# EAGLE library part HEADER_POS10_? (library IIT_BOMBAY_Racing)
Molex - Micro-Fit 3.0 Series connector, 3.00mm (0.118") pitch header, 10 positions.
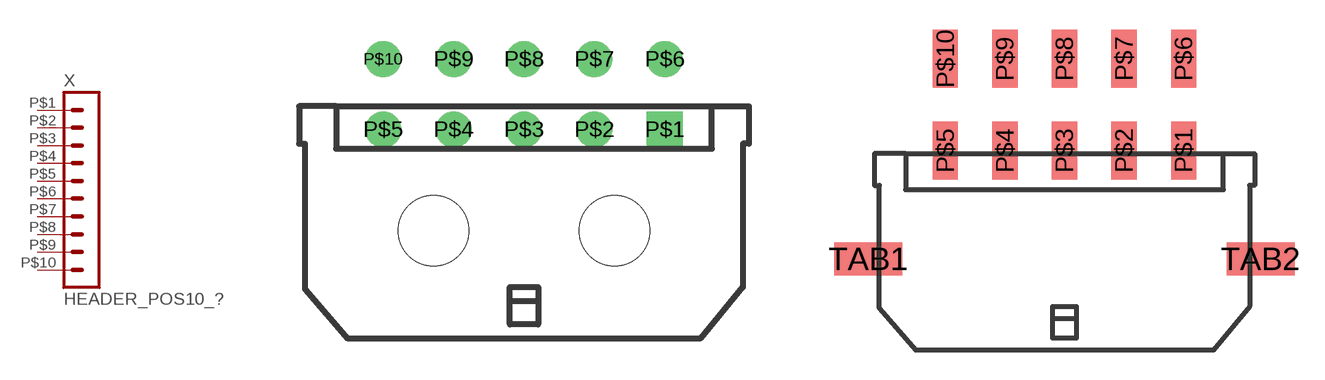
[diagram p57: symbol with the pads of 43045-1000; footprints 43045-1000, 43045-1009]

Designator prefix X

## HEADER_POS10_43045-1000  [43045-1000]
P$1  1  pas
P$2  2  pas
P$3  3  pas
P$4  4  pas
P$5  5  pas
P$6  6  pas
P$7  7  pas
P$8  8  pas
P$9  9  pas
P$10  10  pas

## HEADER_POS10_43045-1009  [43045-1009]
Pads as for 43045-1000

## HEADER_POS10_43045-1006  [43045-1006]
Pads as for 43045-1000

## HEADER_POS10_43045-1012  [43045-1012]
Pads as for 43045-1000

## HEADER_POS10_43045-1015  [43045-1015]
Pads as for 43045-1000

## HEADER_POS10_43045-1018  [43045-1018]
Pads as for 43045-1000

## HEADER_POS10_44914-1001  [44914-1001]
Pads as for 43045-1000

## HEADER_POS10_43650-1015  [43650-1015]
Pads as for 43045-1000

## HEADER_POS10_43650-1021  [43650-1021]
Pads as for 43045-1000

## HEADER_POS10_43650-1024  [43650-1024]
Pads as for 43045-1000

## HEADER_POS10_43650-1000  [43650-1000]
Pads as for 43045-1000

## HEADER_POS10_43650-1009  [43650-1009]
P$1  2  pas
P$2  1  pas
P$3  3  pas
P$4  4  pas
P$5  5  pas
P$6  6  pas
P$7  7  pas
P$8  8  pas
P$9  9  pas
P$10  10  pas

## HEADER_POS10_43650-1012  [43650-1012]
Pads as for 43045-1000

## HEADER_POS10_44769-1001  [44769-1001]
Pads as for 43045-1000

## HEADER_POS10_44432-1001  [44432-1001]
Pads as for 43045-1000

## HEADER_POS10_44428-1001  [44428-1001]
Pads as for 43045-1000

## HEADER_POS10_44764-1001  [44764-1001]
Pads as for 43045-1000

## Footprint 43045-1000 (pad centres in mm)
Molex Micro-Fit 3.0 - Header Shrouded, Thru hole, Right Angle; P/N: SD-43045-1000, SD-43045-1001, SD-43045-1002 http://www.molex.com/pdm_docs/sd/430450200_sd.pdf
drill 1.02 square: P$1 6,4.32
drill 1.02: P$2 3,4.32; P$3 0,4.32; P$4 -3,4.32; P$5 -6,4.32; P$6 6,7.32; P$7 3,7.32; P$8 0,7.32; P$9 -3,7.32; P$10 -6,7.32
hole 3 at 3.85,0
hole 3 at -3.85,0

## Footprint 43045-1009 (pad centres in mm)
Molex Micro-Fit 3.0 - Header Shrouded, Surface mount, Right Angle, Solderable tabs; P/N: SD-43045-1009, SD-43045-1010, SD-43045-1011 http://www.molex.com/pdm_docs/sd/430450209_sd.pdf
smd 1.27 x 2.92: P$1 6,5.47; P$2 3,5.47; P$3 0,5.47; P$4 -3,5.47; P$5 -6,5.47; P$6 6,10.1; P$7 3,10.1; P$8 0,10.1; P$9 -3,10.1; P$10 -6,10.1
smd 3.43 x 1.65: TAB1 -9.88,0; TAB2 9.88,0

## Footprint 43045-1006 (pad centres in mm)
Molex Micro-Fit 3.0 - Header Shrouded, Surface mount, Right Angle, Solderable Retention clips; P/N: SD-43045-1006, SD-43045-1007, SD-43045-1008 http://www.molex.com/pdm_docs/sd/430450206_sd.pdf
smd 1.27 x 2.92: P$1 6,5.47; P$2 3,5.47; P$3 0,5.47; P$4 -3,5.47; P$5 -6,5.47; P$6 6,10.1; P$7 3,10.1; P$8 0,10.1; P$9 -3,10.1; P$10 -6,10.1
hole 2.41 at -8.15,0
hole 2.41 at 8.15,0

## Footprint 43045-1012 (pad centres in mm)
Molex Micro-Fit 3.0 - Header Shrouded, Thru hole, Vertical, with Pegs; P/N: SD-43045-1012, SD-43045-1013, SD-43045-1014 http://www.molex.com/pdm_docs/sd/430450212_sd.pdf
drill 1.02 square: P$1 6,0
drill 1.02: P$2 3,0; P$3 0,0; P$4 -3,0; P$5 -6,0; P$6 6,3; P$7 3,3; P$8 0,3; P$9 -3,3; P$10 -6,3
hole 1.02 at 9,3.94
hole 1.02 at -9,3.94

## Footprint 43045-1015 (pad centres in mm)
Molex Micro-Fit 3.0 - Header Shrouded, Surface mount, Vertical, with Solderable Retention Clips; P/N: SD-43045-1015, SD-43045-1016, SD-43045-1017 http://www.molex.com/pdm_docs/sd/430450215_sd.pdf
smd 1.27 x 2.54: P$1 6,-4.7; P$2 3,-4.7; P$3 0,-4.7; P$4 -3,-4.7; P$5 -6,-4.7; P$6 6,4.7; P$7 3,4.7; P$8 0,4.7; P$9 -3,4.7; P$10 -6,4.7
hole 2.41 at -8.15,0
hole 2.41 at 8.15,0

## Footprint 43045-1018 (pad centres in mm)
Molex Micro-Fit 3.0 - Header Shrouded, Surface mount, Vertical, with Solder Tabs; P/N: SD-43045-1018, SD-43045-1019, SD-43045-1020 http://www.molex.com/pdm_docs/sd/430450218_sd.pdf
smd 3.43 x 1.65: CLIP1 -9.88,0; CLIP2 9.88,0
smd 1.27 x 2.54: P$1 6,-4.7; P$2 3,-4.7; P$3 0,-4.7; P$4 -3,-4.7; P$5 -6,-4.7; P$6 6,4.7; P$7 3,4.7; P$8 0,4.7; P$9 -3,4.7; P$10 -6,4.7

## Footprint 44914-1001 (pad centres in mm)
Molex Micro-Fit 3.0 - Header Shrouded, Thru hole, Vertical, Press-fit, with Pegs; P/N: SD-44914-1001, SD-44914-1002, SD-44914-1003 http://www.molex.com/pdm_docs/sd/449140201_sd.pdf
drill 1.09 square: P$1 6,0
drill 1.09: P$2 3,0; P$3 0,0; P$4 -3,0; P$5 -6,0; P$6 6,3; P$7 3,3; P$8 0,3; P$9 -3,3; P$10 -6,3
hole 1.02 at 9,3.94
hole 1.02 at -9,3.94

## Footprint 43650-1015 (pad centres in mm)
Molex Micro-Fit 3.0 - Header Shrouded, Thru hole, Vertical, with Pegs; P/N: SD-43650-1015, SD-43650-1016, SD-43650-1017 http://www.molex.com/pdm_docs/sd/436500215_sd.pdf
drill 1.02 square: P$1 13.5,0
drill 1.02: P$2 10.5,0; P$3 7.5,0; P$4 4.5,0; P$5 1.5,0; P$6 -1.5,0; P$7 -4.5,0; P$8 -7.5,0; P$9 -10.5,0; P$10 -13.5,0
hole 1.27 at 16.5,-1.96
hole 1.27 at -16.5,-1.96

## Footprint 43650-1021 (pad centres in mm)
Molex Micro-Fit 3.0 - Header Shrouded, Thru hole, Vertical, with Solderable Retention Clips; P/N: SD-43650-1021, SD-43650-1022, SD-43650-1023 http://www.molex.com/pdm_docs/sd/436500221_sd.pdf
smd 1.27 x 2.54: P$1 13.5,3.43; P$2 10.5,3.43; P$3 7.5,3.43; P$4 4.5,3.43; P$5 1.5,3.43; P$6 -1.5,3.43; P$7 -4.5,3.43; P$8 -7.5,3.43; P$9 -10.5,3.43; P$10 -13.5,3.43
hole 2.41 at 15.65,0
hole 2.41 at -15.65,0

## Footprint 43650-1024 (pad centres in mm)
Molex Micro-Fit 3.0 - Header Shrouded, Thru hole, Vertical, with Solder Tabs; P/N: SD-43650-1024, SD-43650-1025, SD-43650-1026 http://www.molex.com/pdm_docs/sd/436500224_sd.pdf
smd 1.27 x 2.54: P$1 13.5,3.43; P$2 10.5,3.43; P$3 7.5,3.43; P$4 4.5,3.43; P$5 1.5,3.43; P$6 -1.5,3.43; P$7 -4.5,3.43; P$8 -7.5,3.43; P$9 -10.5,3.43; P$10 -13.5,3.43
smd 3.43 x 1.65: TAB1 17.39,0; TAB2 -17.39,0

## Footprint 43650-1000 (pad centres in mm)
Molex Micro-Fit 3.0 - Header Shrouded, Thru hole, Right Angle, with Pegs; P/N: SD-43650-1000, SD-43650-1001, SD-43650-1002 http://www.molex.com/pdm_docs/sd/436500200_sd.pdf
drill 1.02 square: P$1 13.5,4.32
drill 1.02: P$2 10.5,4.32; P$3 7.5,4.32; P$4 4.5,4.32; P$5 1.5,4.32; P$6 -1.5,4.32; P$7 -4.5,4.32; P$8 -7.5,4.32; P$9 -10.5,4.32; P$10 -13.5,4.32
hole 3 at 11.35,0
hole 3 at -11.35,0

## Footprint 43650-1009 (pad centres in mm)
Molex Micro-Fit 3.0 - Header Shrouded, Thru hole, Right Angle, with Solderable Retention Clips; P/N: SD-43650-1009, SD-43650-1010, SD-43650-1011 http://www.molex.com/pdm_docs/sd/436500209_sd.pdf
smd 1.27 x 2.92: P$1 13.5,5.48; P$2 10.5,5.48; P$3 7.5,5.48; P$4 4.5,5.48; P$5 1.5,5.48; P$6 -1.5,5.48; P$7 -4.5,5.48; P$8 -7.5,5.48; P$9 -10.5,5.48; P$10 -13.5,5.48
hole 2.41 at 15.65,0
hole 2.41 at -15.65,0

## Footprint 43650-1012 (pad centres in mm)
Molex Micro-Fit 3.0 - Header Shrouded, Surface mount, Right Angle, with Solderable tabs; P/N: SD-43650-1012, SD-43650-1013, SD-43650-1014 http://www.molex.com/pdm_docs/sd/436500212_sd.pdf
smd 1.27 x 2.92: P$1 13.5,5.48; P$2 10.5,5.48; P$3 7.5,5.48; P$4 4.5,5.48; P$5 1.5,5.48; P$6 -1.5,5.48; P$7 -4.5,5.48; P$8 -7.5,5.48; P$9 -10.5,5.48; P$10 -13.5,5.48
smd 3.43 x 1.65: TAB1 17.38,0; TAB2 -17.38,0

## Footprint 44769-1001 (pad centres in mm)
Molex Micro-Fit 3.0 - Board-to-Board BMI (Blind Mate Interface), Receptacle Vertical, Thru hole; P/N: SD-44769-1001, SD-44769-1002, SD-44769-1003 http://www.molex.com/pdm_docs/sd/447690401_sd.pdf
drill 1.02 square: P$1 -6,0
drill 1.02: P$2 -3,0; P$3 0,0; P$4 3,0; P$5 6,0; P$6 -6,3; P$7 -3,3; P$8 0,3; P$9 3,3; P$10 6,3
hole 2.36 at 9,3
hole 2.36 at -9,3

## Footprint 44432-1001 (pad centres in mm)
Molex Micro-Fit 3.0 - Board-to-Board BMI (Blind Mate Interface), Header Vertical, Thru hole, with Pegs; P/N: SD-44432-1001, SD-44432-1002, SD-44432-1003 http://www.molex.com/pdm_docs/sd/444320401_sd.pdf
drill 1.02 square: P$1 6,-3
drill 1.02: P$2 3,-3; P$3 0,-3; P$4 -3,-3; P$5 -6,-3; P$6 6,0; P$7 3,0; P$8 0,0; P$9 -3,0; P$10 -6,0
hole 1.57 at -10.5,1.45
hole 1.57 at 10.5,1.45

## Footprint 44428-1001 (pad centres in mm)
Molex Micro-Fit 3.0 - Board-to-Board BMI (Blind Mate Interface), Header Right Angle, Thru hole, with Pegs; P/N: SD-44428-1001, SD-44428-1002, SD-44428-1003 http://www.molex.com/pdm_docs/sd/444280401_sd.pdf
drill 1.02 square: P$1 6,0
drill 1.02: P$2 3,0; P$3 0,0; P$4 -3,0; P$5 -6,0; P$6 6,3; P$7 3,3; P$8 0,3; P$9 -3,3; P$10 -6,3
hole 3 at 3.84,-8.53
hole 3 at -3.84,-8.53

## Footprint 44764-1001 (pad centres in mm)
Molex Micro-Fit 3.0 - Board-to-Board BMI (Blind Mate Interface), Receptacle, Right Angle, Thru hole; P/N: SD-44764-1001, SD-44764-1002, SD-44764-1003 http://www.molex.com/pdm_docs/sd/447640401_sd.pdf
drill 1.02 square: P$1 -6,0
drill 1.02: P$2 -3,0; P$3 0,0; P$4 3,0; P$5 6,0; P$6 -6,3; P$7 -3,3; P$8 0,3; P$9 3,3; P$10 6,3
hole 2.36 at -4.5,-3.05
hole 2.36 at 4.5,-3.05